# Altium integrated library Rosenberger DIN 41626.IntLib: 3 symbols
Pins are listed as number, name and electrical type; pins without a type are passive.

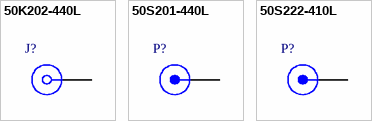
[diagram p0: symbols 50K202-440L to 50S222-410L]

## 50K202-440L
designator J?
Power Insert Right Angle Jack, Up to 40 A, -55 to 125 degC; PartNumber: 50K202-440L; Design Note: Footprint in library is a generic example - only application specific footprint delivers High Performance; DatasheetVersion: e00; PackageVersion: e00; PackageReference: 50K202-440L; PackageDescription: Power Insert Right Angle Jack, 17.435 x 6 x 6.2 mm; Mounting Technology: Through Hole; ComponentLink1Description: Manufacturer URL; ComponentLink1URL: http://www.rosenberger.de; ComponentLink2Description: Datasheet; ComponentLink2URL: http://rosenberger.de/ok/images/documents/db/50K202-440L.pdf; ComponentLink3Description: Package Specification; ComponentLink3URL: http://rosenberger.de/ok/images/documents/db/50K202-440L.pdf; ComponentLink4Description: Series Overview / Design Note; ComponentLink4URL: http://rosenberger.de/ok/images/documents/spez/50.pdf; ComponentLink5Description: Webshop / RFQ; ComponentLink5URL: http://www.rosenberger.com/en/contact/sales/
footprint ROS-50K202-440L_V (Power Insert Right Angle Jack, 17.435x6x6.2mm, Rosenberger Recommended)
pins: PWR (power)

## 50S201-440L
designator P?
Power Insert Right Angle Plug, Up to 40 A, -55 to 125 degC; PartNumber: 50S201-440L; Design Note: Footprint in library is a generic example - only application specific footprint delivers High Performance; DatasheetVersion: a00; PackageVersion: a00; PackageReference: 50S201-440L; PackageDescription: Power Insert Right Angle Plug, 17.91 x 6 x 6.2 mm; Mounting Technology: Through Hole; ComponentLink1Description: Manufacturer URL; ComponentLink1URL: http://www.rosenberger.de; ComponentLink2Description: Datasheet; ComponentLink2URL: http://rosenberger.de/ok/images/documents/db/50S201-440L.pdf; ComponentLink3Description: Package Specification; ComponentLink3URL: http://rosenberger.de/ok/images/documents/db/50S201-440L.pdf; ComponentLink4Description: Series Overview / Design Note; ComponentLink4URL: http://rosenberger.de/ok/images/documents/spez/50.pdf; ComponentLink5Description: Webshop / RFQ; ComponentLink5URL: http://www.rosenberger.com/en/contact/sales/
footprint ROS-50S201-440L_V (Power Insert Right Angle Plug, 17.91x6x6.2mm, Rosenberger Recommended)
pins: PWR (power)

## 50S222-410L
designator P?
Power Insert Right Angle Plug, Up to 10 A, -55 to 125 degC; PartNumber: 50S222-410L; Design Note: Footprint in library is a generic example - only application specific footprint delivers High Performance; DatasheetVersion: a00; PackageVersion: a00; PackageReference: 50S222-410L; PackageDescription: Power Insert Right Angle Plug, 15.7 x 6 x 6.2 mm; Mounting Technology: Through Hole; ComponentLink1Description: Manufacturer URL; ComponentLink1URL: http://www.rosenberger.de; ComponentLink2Description: Datasheet; ComponentLink2URL: http://rosenberger.de/ok/images/documents/db/50S222-410L.pdf; ComponentLink3Description: Package Specification; ComponentLink3URL: http://rosenberger.de/ok/images/documents/db/50S222-410L.pdf; ComponentLink4Description: Series Overview / Design Note; ComponentLink4URL: http://rosenberger.de/ok/images/documents/spez/50.pdf; ComponentLink5Description: Webshop / RFQ; ComponentLink5URL: http://www.rosenberger.com/en/contact/sales/
footprint ROS-50S222-410L_V (Power Insert Right Angle Plug, 15.7x6x6.2mm, Rosenberger Recommended)
pins: PWR (power)